# Altium footprint library XTAL_5x3.2-6.PcbLib: 1 footprints
Each footprint in its own frame and in the unit in brackets; x right, y up, seen from the top. Pads: shape width x height; smd on the part's side, far side on the other; paste and mask are expansions set on the pad; w line width, h text height; cw(c..) or ccw(c..) is an arc to the next point about the centre after c.
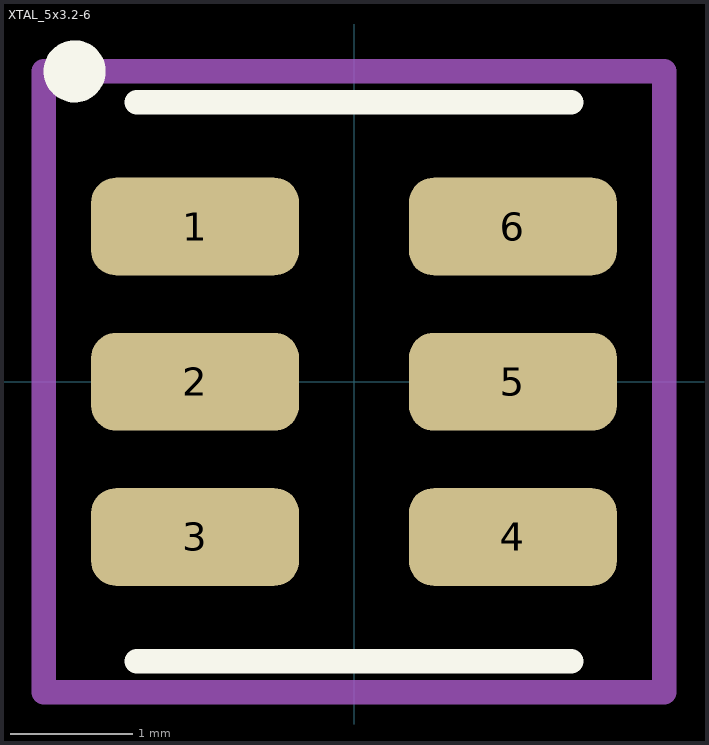
[diagram p0: the footprint, top view; thin cyan lines are the x and y axes]

## XTAL_5x3.2-6 [mm] "5 x 3.2mm 6 pin oscillator footprint"
pads (6):
  rrect50% 1.7x0.8 smd: 1(-1.3,1.27) 2(-1.3,0) 3(-1.3,-1.27) 4(1.3,-1.27) 5(1.3,0) 6(1.3,1.27)
Top Overlay:
  circle w0.254: c-2.286,2.54 r0.127
  lines w0.2: -1.778,-2.286 1.778,-2.286 ; -1.778,2.286 1.778,2.286
Mechanical 15:
  lines w0.2: -2.54,-2.54 -2.54,2.54 2.54,2.54 2.54,-2.54 -2.54,-2.54
3D body: height 1.28, standoff 0, extent -1.6,-2.222 1.6,2.223